# Altium integrated library AF0402FR-0710KL.IntLib: 1 symbol
Pins are listed as number, name and electrical type; pins without a type are passive.

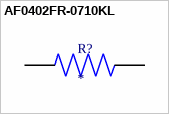
[diagram p0: symbol AF0402FR-0710KL]

## AF0402FR-0710KL
designator R?
RES SMD 10K OHM 1% 1/16W 0402; MP: AF0402FR-0710KL; Package: None; Price: None; Value: *; Availability: Unavailable
footprint RESC1005X37N
pins: 1, 2